# Altium footprint library HDR_fszhang.PcbLib: 116 footprints (part 1 of 8)
Each footprint in its own frame and in the unit in brackets; x right, y up, seen from the top. Pads: shape width x height; smd on the part's side, far side on the other; paste and mask are expansions set on the pad; w line width, h text height; cw(c..) or ccw(c..) is an arc to the next point about the centre after c.
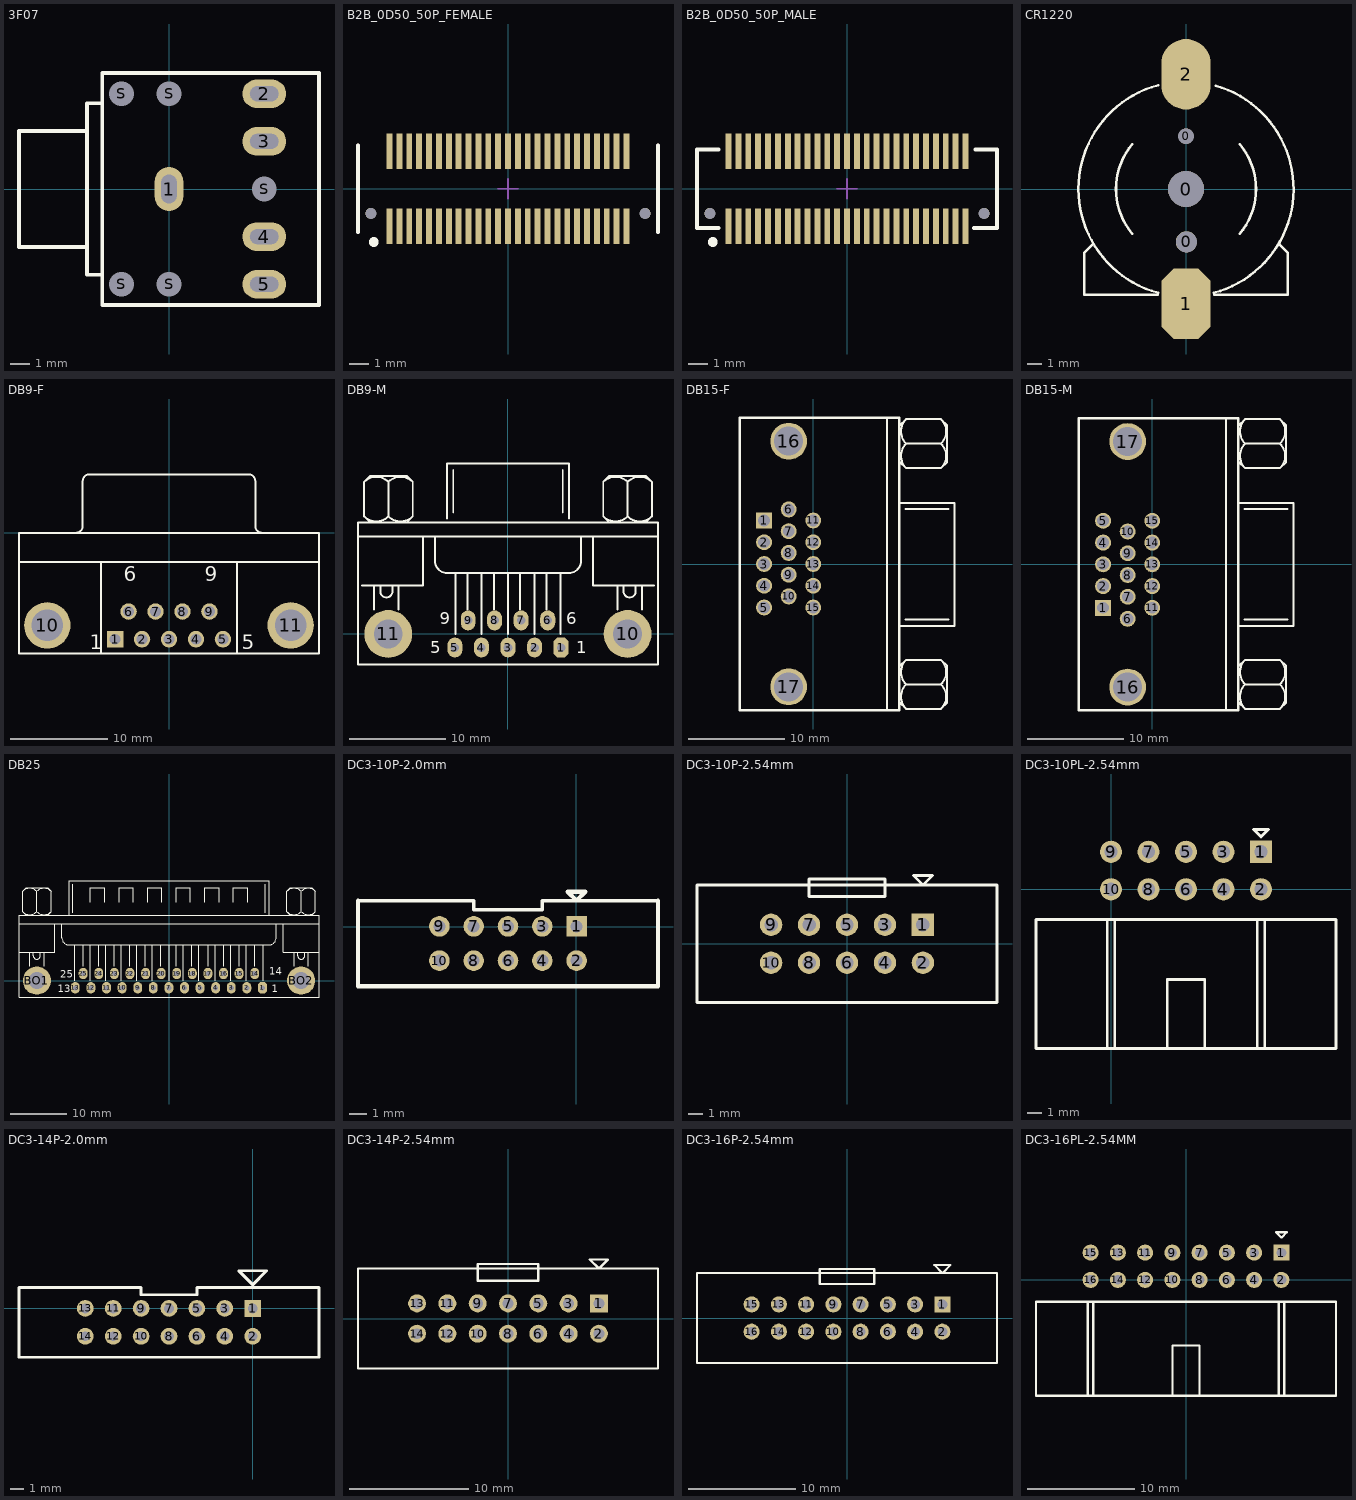
[diagram p0: the footprints below, top view; thin cyan lines are the x and y axes]

## 3F07 [mm] "立体声耳机插座"
pads (10):
  oval 1.5x2.3 hole 0.8 slot 1.5 at 90 deg: 1(0,0)
  oval 2.3x1.5 hole 0.8 slot 1.5 at 0 deg: 2(5,5) 3(5,2.5) 4(5,-2.5) 5(5,-5)
  round 1 hole 1.3: S(-2.5,-5) S(-2.5,5) S(0,-5) S(0,5) S(5,0)
Top Overlay:
  lines w0.2: -4.318,-3.048 -7.874,-3.048 -7.874,3.048 -4.318,3.048 ; -3.5,-4.5 -4.3,-4.5 -4.3,4.5 -3.5,4.5 ; -3.5,-6.096 7.874,-6.096 7.874,6.096 -3.5,6.096 -3.5,0 -3.5,-6.096
3D body: height 6, standoff 0, extent -7.874,-3.048 -4.318,3.048
3D body: height 6, standoff 0, extent -4.318,-4.445 -3.429,4.445
3D body: height 6, standoff 0, extent -3.429,-5.969 7.874,5.969

## B2B_0D50_50P_FEMALE [mil] "B2B_0D50_50P_FEMALE"
pads (52):
  rect 11.8x70.9 smd: 1(-236.2,-74.8) 2(-236.2,74.8) 3(-216.5,-74.8) 4(-216.5,74.8) 5(-196.9,-74.8) 6(-196.9,74.8) 7(-177.2,-74.8) 8(-177.2,74.8) 9(-157.5,-74.8) 10(-157.5,74.8) 11(-137.8,-74.8) 12(-137.8,74.8) 13(-118.1,-74.8) 14(-118.1,74.8) 15(-98.4,-74.8) 16(-98.4,74.8) 17(-78.7,-74.8) 18(-78.7,74.8) 19(-59.1,-74.8) 20(-59.1,74.8) 21(-39.4,-74.8) 22(-39.4,74.8) 23(-19.7,-74.8) 24(-19.7,74.8) 25(0,-74.8) 26(0,74.8) 27(19.7,-74.8) 28(19.7,74.8) 29(39.4,-74.8) 30(39.4,74.8) 31(59.1,-74.8) 32(59.1,74.8) 33(78.7,-74.8) 34(78.7,74.8) 35(98.4,-74.8) 36(98.4,74.8) 37(118.1,-74.8) 38(118.1,74.8) 39(137.8,-74.8) 40(137.8,74.8) 41(157.5,-74.8) 42(157.5,74.8) 43(177.2,-74.8) 44(177.2,74.8) 45(196.9,-74.8) 46(196.9,74.8) 47(216.5,-74.8) 48(216.5,74.8) 49(236.2,-74.8) 50(236.2,74.8)
  round 21.7 hole 21.7: " "(-273.6,-49.2) " "(273.6,-49.2)
Top Overlay:
  circle w9.8: c-267.7,-106.3 r4.9
  lines w7.9: -299.2,-86.6 -299.2,86.6 ; 299.2,-86.6 299.2,86.6
Mechanical 10:
  text "23" at -19.7,-94.8 h25
  text "12" at -137.8,54.8 h25
  text "19" at -59.1,-94.8 h25
  text "13" at -118.1,-94.8 h25
  text "18" at -78.7,54.8 h25
  text "5" at -196.9,-84.8 h25
  text "22" at -39.4,54.8 h25
  text "11" at -137.8,-94.8 h25
  text "32" at 59.1,54.8 h25
  text "35" at 98.4,-94.8 h25
  text "8" at -177.2,64.8 h25
  text "7" at -177.2,-84.8 h25
  text "30" at 39.4,54.8 h25
  text "10" at -157.5,54.8 h25
  text "2" at -236.2,64.8 h25
  text "14" at -118.1,54.8 h25
  text "3" at -216.5,-84.8 h25
  text "15" at -98.4,-94.8 h25
  text "33" at 78.7,-94.8 h25
  text "17" at -78.7,-94.8 h25
  text "9" at -157.5,-84.8 h25
  text "27" at 19.7,-94.8 h25
  text "16" at -98.4,54.8 h25
  text "4" at -216.5,64.8 h25
  text "43" at 177.2,-94.8 h25
  text "37" at 118.1,-94.8 h25
  text "31" at 59.1,-94.8 h25
  text "41" at 157.5,-94.8 h25
  text "34" at 78.7,54.8 h25
  text "36" at 98.4,54.8 h25
  text "38" at 118.1,54.8 h25
  text "40" at 137.8,54.8 h25
  text "42" at 157.5,54.8 h25
  text "44" at 177.2,54.8 h25
  text "46" at 196.9,54.8 h25
  text "24" at -19.7,54.8 h25
  text "26" at 0,54.8 h25
  text "21" at -39.4,-94.8 h25
  text "39" at 137.8,-94.8 h25
  text "25" at 0,-94.8 h25
  text "1" at -236.2,-84.8 h25
  text "28" at 19.7,54.8 h25
  text "6" at -196.9,64.8 h25
  text "29" at 39.4,-94.8 h25
  text "45" at 196.9,-94.8 h25
  text "20" at -59.1,54.8 h25
Mechanical 12:
  lines w7.9: -299.2,-86.6 -299.2,86.6 ; 299.2,-86.6 299.2,86.6
  text "RichardLC" at 0,-64.42 h15.7
Mechanical 15:
  lines w3.94: -19.69,0 19.68,0 ; 0,-19.68 0,19.69

## B2B_0D50_50P_MALE [mil] "B2B_0D50_50P_MALE"
pads (52):
  rect 11.8x70.9 smd: 1(-236.2,-74.8) 2(-236.2,74.8) 3(-216.5,-74.8) 4(-216.5,74.8) 5(-196.9,-74.8) 6(-196.9,74.8) 7(-177.2,-74.8) 8(-177.2,74.8) 9(-157.5,-74.8) 10(-157.5,74.8) 11(-137.8,-74.8) 12(-137.8,74.8) 13(-118.1,-74.8) 14(-118.1,74.8) 15(-98.4,-74.8) 16(-98.4,74.8) 17(-78.7,-74.8) 18(-78.7,74.8) 19(-59.1,-74.8) 20(-59.1,74.8) 21(-39.4,-74.8) 22(-39.4,74.8) 23(-19.7,-74.8) 24(-19.7,74.8) 25(0,-74.8) 26(0,74.8) 27(19.7,-74.8) 28(19.7,74.8) 29(39.4,-74.8) 30(39.4,74.8) 31(59.1,-74.8) 32(59.1,74.8) 33(78.7,-74.8) 34(78.7,74.8) 35(98.4,-74.8) 36(98.4,74.8) 37(118.1,-74.8) 38(118.1,74.8) 39(137.8,-74.8) 40(137.8,74.8) 41(157.5,-74.8) 42(157.5,74.8) 43(177.2,-74.8) 44(177.2,74.8) 45(196.9,-74.8) 46(196.9,74.8) 47(216.5,-74.8) 48(216.5,74.8) 49(236.2,-74.8) 50(236.2,74.8)
  round 21.7 hole 21.7: " "(-273.6,-49.2) " "(273.6,-49.2)
Top Overlay:
  circle w9.8: c-267.7,-106.3 r4.9
  lines w7.87: -256.3,-78.7 -299.2,-78.7 -299.2,78.7 -256.3,78.7 ; 253.7,-78.7 299.2,-78.7 ; 256.3,78.7 299.2,78.7
  lines w7.9: 299.2,-78.7 299.2,78.7
Mechanical 15:
  lines w3.94: -19.69,0 19.68,0 ; 0,-19.68 0,19.69

## CR1220 [mm] "钮扣电池"
height 3
pads (5):
  round 2.54 hole 2.54: 0(0,0)
  round 1.1 hole 1.1: 0(0,3.75)
  round 1.5 hole 1.5: 0(0.025,-3.75)
  oct 3.5x5 smd: 1(0,-8.128)
  oval 3.5x5 smd: 2(0,8.128)
Top Overlay:
  lines w0.178: -6.6,-3.9 -7.2,-4.5 -7.2,-7.5 -2,-7.5 ; -3.815,-3.169 cw(c0,0) -3.812,3.172 ; -1.963,-7.363 cw(c0,0) -7.62,0 cw(c0,0) -1.963,7.363 ; 1.963,-7.363 ccw(c0,0) 2.093,7.327 ; 2,-7.5 7.2,-7.5 7.2,-4.5 6.625,-3.925 ; 3.81,-3.175 ccw(c0,0) 3.812,3.172

## DB9-F [mm] "DB9母座"
height 12.75
pads (11):
  rect 1.69x1.69 hole 1.09: 1(-5.54,-10.92)
  round 1.69 hole 1.09: 2(-2.77,-10.92) 3(0,-10.92) 4(2.77,-10.92) 5(5.54,-10.92) 6(-4.155,-8.08) 7(-1.385,-8.08) 8(1.385,-8.08) 9(4.155,-8.08)
  round 4.76 hole 3.26: 10(-12.495,-9.5) 11(12.495,-9.5)
Top Overlay:
  lines w0.2: -15.4,-3 15.4,-3 ; -9.56,0.005 ccw(c-9.56,0.7) -8.865,0.7 -8.865,5.3 ; -8.86,5.305 cw(c-8.165,5.305) -8.165,6 8.165,6 cw(c8.165,5.305) 8.86,5.305 ; -7,-12.4 -7,-3 ; 7,-12.4 7,-3 ; 8.865,5.3 8.865,0.7 ccw(c9.56,0.7) 9.56,0.005 ; -15.4,-12.4 -15.4,0 15.4,0 15.4,-12.4 -15.4,-12.4
  text "1" at -8.128,-11.938 h1.5
  text "5" at 7.493,-11.938 h1.5
  text "9" at 3.655,-4.975 h1.5
  text "6" at -4.655,-4.975 h1.5

## DB9-M [mil] "DB9公座"
pads (11):
  oct 62x82 hole 35: 1(218.75,-55.83)
  oval 62x82 hole 35: 2(109.58,-55.83) 3(0.42,-55.83) 4(-108.75,-55.83) 5(-217.92,-55.83) 6(163.75,55.83) 7(54.58,55.83) 8(-54.58,55.83)
  oval 60x82 hole 35: 9(-163.75,55.83)
  round 196.67 hole 118.33: 10(492.08,0) 11(-492.08,0)
Top Overlay:
  lines w8: -616.25,400 617.08,400 ; -599.58,200 -349.58,200 -349.58,400 ; -591.34,483.25 ccw(c-541.25,533.33) -491.16,483.25 ; -591.34,625.09 cw(c-541.25,575) -491.16,625.09 ; -566.25,458.33 -591.25,483.33 -591.25,625 -566.25,650 -416.25,650 -391.25,625 -391.25,483.33 -416.25,458.33 ; -549.58,100 -549.58,200 ; -524.58,200 -524.58,175 ccw(c-499.58,175) -474.58,175 -474.58,200 ; -491.34,483.25 ccw(c-441.25,533.33) -391.16,483.25 ; -491.34,625.09 cw(c-441.25,575) -391.16,625.09 ; -491.25,483.33 -491.25,625 ; -449.58,100 -449.58,200 ; -299.58,400 -299.58,300 ccw(c-249.58,300) -249.58,250 250.42,250 ccw(c250.42,300) 300.42,300 300.42,400 ; -249.58,475 -249.58,700 250.42,700 250.42,475 ; -224.58,500 -224.58,675 ; -216.25,0 -216.25,250 ; -166.25,100 -166.25,250 ; -107.92,0 -107.92,250 ; -57.92,100 -57.92,250 ; 0.42,0 0.42,250 ; 50.42,100 50.42,250 ; 108.75,0 108.75,250 ; 158.75,100 158.75,250 ; 217.08,0 217.08,250 ; 225.42,500 225.42,675 ; 350.42,400 350.42,200 600.42,200 ; 392,483.25 ccw(c442.08,533.33) 492.17,483.25 ; 392,625.09 cw(c442.08,575) 492.17,625.09 ; 417.08,458.33 392.08,483.33 392.08,625 417.08,650 567.08,650 592.08,625 592.08,483.33 567.08,458.33 ; 450.42,100 450.42,200 ; 475.42,200 475.42,175 ccw(c500.42,175) 525.42,175 525.42,200 ; 492,483.25 ccw(c542.08,533.33) 592.17,483.25 ; 492,625.09 cw(c542.08,575) 592.17,625.09 ; 492.08,483.33 492.08,625 ; 550.42,100 550.42,200 ; -616.25,-125 617.08,-125 617.08,458.33 -616.25,458.33 -616.25,-125
  text "6" at 240.42,40 h50
  text "1" at 280.42,-80 h50
  text "5" at -319.58,-80 h50
  text "9" at -279.58,40 h50
3D body: height 504.38, standoff -114.62, extent -600.76,-119.22 612.24,631.78

## DB15-F [mil] "VGA母座"
height 393.7
pads (17):
  rect 65x65 hole 48: 1(-200,177.16)
  round 65 hole 48: 2(-200,88.58) 3(-200,0) 4(-200,-88.58) 5(-200,-177.16) 6(-100,222.17) 7(-100,133.58) 8(-100,45) 9(-100,-43.58) 10(-100,-132.16) 11(0,177.16) 12(0,88.58) 13(0,0) 14(0,-88.58) 15(0,-177.16)
  round 150 hole 118.11: 16(-100,500) 17(-100,-500)
Top Overlay:
  lines w8: 300,-595 300,596.25 ; 350,-251.67 575,-251.67 575,248.33 350,248.33 ; 353.33,-565 378.33,-590 520,-590 545,-565 545,-415 520,-390 378.33,-390 353.33,-415 ; 353.33,415 378.33,390 520,390 545,415 545,565 520,590 378.33,590 353.33,565 ; 375,-226.67 550,-226.67 ; 375,223.33 550,223.33 ; 378.25,-590.09 cw(c428.33,-540) 378.25,-489.91 ; 378.25,-490.09 cw(c428.33,-440) 378.25,-389.91 ; 378.25,389.91 cw(c428.33,440) 378.25,490.09 ; 378.25,489.91 cw(c428.33,540) 378.25,590.09 ; 378.33,-490 520,-490 ; 378.33,490 520,490 ; 520.09,-590.09 ccw(c470,-540) 520.09,-489.91 ; 520.09,-490.09 ccw(c470,-440) 520.09,-389.91 ; 520.09,389.91 ccw(c470,440) 520.09,490.09 ; 520.09,489.91 ccw(c470,540) 520.09,590.09
  lines w10: -300,-595 350,-595 350,595 -300,595 -300,-595

## DB15-M [mil] "VGA公座"
height 393.7
pads (17):
  rect 65x65 hole 48: 1(-200,-177.16)
  round 65 hole 48: 2(-200,-88.58) 3(-200,0) 4(-200,88.58) 5(-200,177.16) 6(-100,-222) 7(-100,-132.16) 8(-100,-43.58) 9(-100,45) 10(-100,133.58) 11(0,-177.16) 12(0,-88.58) 13(0,0) 14(0,88.58) 15(0,177.16)
  round 150 hole 118.11: 16(-100,-500) 17(-100,500)
Top Overlay:
  lines w8: 300,-596.25 300,595 ; 350,-250.42 575,-250.42 575,249.58 350,249.58 ; 353.33,-563.75 378.33,-588.75 520,-588.75 545,-563.75 545,-413.75 520,-388.75 378.33,-388.75 353.33,-413.75 ; 353.33,416.25 378.33,391.25 520,391.25 545,416.25 545,566.25 520,591.25 378.33,591.25 353.33,566.25 ; 375,-225.42 550,-225.42 ; 375,224.58 550,224.58 ; 378.25,-588.84 cw(c428.33,-538.75) 378.25,-488.66 ; 378.25,-488.84 cw(c428.33,-438.75) 378.25,-388.66 ; 378.25,391.16 cw(c428.33,441.25) 378.25,491.34 ; 378.25,491.16 cw(c428.33,541.25) 378.25,591.34 ; 378.33,-488.75 520,-488.75 ; 378.33,491.25 520,491.25 ; 520.09,-588.84 ccw(c470,-538.75) 520.09,-488.66 ; 520.09,-488.84 ccw(c470,-438.75) 520.09,-388.66 ; 520.09,391.16 ccw(c470,441.25) 520.09,491.34 ; 520.09,491.16 ccw(c470,541.25) 520.09,591.34
  lines w10: -300,-595 -300,595 350,595 350,-595 -300,-595

## DB25 [mil] "DB25公座"
pads (27):
  oct 62x80 hole 35: 1(654.17,-50)
  oval 62x80 hole 35: 2(545,-50) 3(435.83,-50) 4(326.67,-50) 5(217.5,-50) 6(108.33,-50) 7(-0.83,-50) 8(-110,-50) 9(-219.17,-50) 10(-328.33,-50) 11(-437.5,-50) 12(-546.67,-50) 13(-655.83,-50) 14(600,50) 15(490.83,50) 16(381.67,50) 17(272.5,50) 18(163.33,50) 19(54.17,50) 20(-55,50) 21(-164.17,50) 22(-273.33,50) 23(-382.5,50) 24(-491.67,50) 25(-600.83,50)
  round 196.67 hole 118.33: BO1(-925,0) BO2(925,0)
Top Overlay:
  lines w8: -1050,200 -800,200 -800,400 ; -1050,400 1050,400 ; -1025.09,483.25 ccw(c-975,533.33) -924.91,483.25 ; -1025.09,625.09 cw(c-975,575) -924.91,625.09 ; -1000,458.33 -1025,483.33 -1025,625 -1000,650 -850,650 -825,625 -825,483.33 -850,458.33 ; -975,100 -975,200 ; -950,200 -950,175 ccw(c-925,175) -900,175 -900,200 ; -925.09,483.25 ccw(c-875,533.33) -824.91,483.25 ; -925.09,625.09 cw(c-875,575) -824.91,625.09 ; -925,483.33 -925,625 ; -875,100 -875,200 ; -750,400 -750,300 ccw(c-700,300) -700,250 700,250 ccw(c700,300) 750,300 750,400 ; -700,458.33 -700,700 700,700 700,458.33 ; -675,475 -675,675 ; -658.33,0 -658.33,250 ; -600,100 -600,250 ; -550,0 -550,250 ; -550,550 -550,650 -450,650 -450,550 ; -491.67,100 -491.67,250 ; -441.67,0 -441.67,250 ; -383.33,100 -383.33,250 ; -350,550 -350,650 -250,650 -250,550 ; -333.33,0 -333.33,250 ; -275,100 -275,250 ; -225,0 -225,250 ; -166.67,100 -166.67,250 ; -150,550 -150,650 -50,650 -50,550 ; -116.67,0 -116.67,250 ; -58.33,100 -58.33,250 ; 0,0 0,250 ; 50,100 50,250 ; 50,550 50,650 150,650 150,550 ; 100,0 100,250 ; 158.33,100 158.33,250 ; 208.33,0 208.33,250 ; 250,550 250,650 350,650 350,550 ; 275,100 275,250 ; 325,0 325,250 ; 383.33,100 383.33,250 ; 433.33,0 433.33,250 ; 450,550 450,650 550,650 550,550 ; 491.67,100 491.67,250 ; 541.67,0 541.67,250 ; 600,100 600,250 ; 658.33,0 658.33,250 ; 675,475 675,675 ; 800,400 800,200 1050,200 ; 824.91,483.25 ccw(c875,533.33) 925.09,483.25 ; 824.91,625.09 cw(c875,575) 925.09,625.09 ; 850,458.33 825,483.33 825,625 850,650 1000,650 1025,625 1025,483.33 1000,458.33 ; 875,100 875,200 ; 900,200 900,175 ccw(c925,175) 950,175 950,200 ; 924.91,483.25 ccw(c975,533.33) 1025.09,483.25 ; 924.91,625.09 cw(c975,575) 1025.09,625.09 ; 925,483.33 925,625 ; 975,100 975,200 ; -1050,-116.67 1050,-116.67 1050,458.33 -1050,458.33 -1050,-116.67
  text "25" at -760,20 h50
  text "13" at -780,-80 h50
  text "1" at 720,-80 h50
  text "14" at 700,40 h50
3D body: height 494.09, standoff -125.2, extent -1044.59,-110.09 1043.6,610.38

## DC3-10P-2.0mm [mm] "简易牛角座直"
pads (10):
  rect 1.2x1.2 hole 0.7: 1(0.006,0.012)
  round 1.2 hole 0.7: 2(0.006,-1.988) 3(-1.994,0.012) 4(-1.994,-1.988) 5(-3.994,0.012) 6(-3.994,-1.988) 7(-5.994,0.012) 8(-5.994,-1.988) 9(-7.994,0.012) 10(-7.994,-1.988)
Top Overlay:
  lines w0.2: -12.744,1.512 -5.994,1.512 -5.994,0.987 -1.994,0.987 -1.994,1.512 4.756,1.512
  lines w0.254: -12.744,1.512 -12.744,-3.488 4.756,-3.488 4.756,1.512 ; -0.508,2.032 0.508,2.032 0,1.524 -0.508,2.032

## DC3-10P-2.54mm [mm] "简易牛角座直"
height 1.2
pads (10):
  rect 1.5x1.5 hole 0.9: 1(5.08,1.27)
  round 1.5 hole 0.9: 2(5.08,-1.27) 3(2.54,1.27) 4(2.54,-1.27) 5(0,1.27) 6(0,-1.27) 7(-2.54,1.27) 8(-2.54,-1.27) 9(-5.08,1.27) 10(-5.08,-1.27)
Top Overlay:
  lines w0.2: -10.033,-3.937 10.033,-3.937 10.033,3.937 -10.033,3.937 -10.033,-3.937 ; -2.54,3.175 -2.54,3.937 -2.54,4.318 2.54,4.318 2.54,3.937 2.54,3.175 -2.54,3.175 ; 4.445,4.572 5.588,4.572 5.715,4.572 5.08,3.937 4.445,4.572

## DC3-10PL-2.54mm [mm] "简易牛角座弯"
height 1.75
pads (10):
  rect 1.5x1.5 hole 0.9: 1(10.16,2.54)
  round 1.5 hole 0.9: 2(10.16,0) 3(7.62,2.54) 4(7.62,0) 5(5.08,2.54) 6(5.08,0) 7(2.54,2.54) 8(2.54,0) 9(0,2.54) 10(0,0)
Top Overlay:
  lines w0.2: -0.254,-10.795 -0.254,-2.032 ; 0.254,-10.795 0.254,-2.032 ; 3.81,-10.795 3.81,-6.096 6.35,-6.096 6.35,-10.795 ; 9.906,-10.795 9.906,-2.032 ; 10.414,-10.795 10.414,-2.032 ; -5.08,-10.795 -5.08,-2.032 15.24,-2.032 15.24,-10.795 -5.08,-10.795 ; 9.652,4.064 10.541,4.064 10.668,4.064 10.16,3.556 9.652,4.064

## DC3-14P-2.0mm [mm] "简易牛角座直"
pads (14):
  rect 1.2x1.2 hole 0.7: 1(0,0)
  round 1.2 hole 0.7: 2(0,-2) 3(-2,0) 4(-2,-2) 5(-4,0) 6(-4,-2) 7(-6,0) 8(-6,-2) 9(-8,0) 10(-8,-2) 11(-10,0) 12(-10,-2) 13(-12,0) 14(-12,-2)
Top Overlay:
  lines w0.2: -16.75,-3.5 -16.75,1.5 -8,1.5 -8,0.975 -4,0.975 -4,1.5 4.75,1.5 4.75,-3.5 -16.75,-3.5 ; -1,2.7 0,1.7 1,2.7 -1,2.7

## DC3-14P-2.54mm [mm] "简易牛角座直"
height 2.65
pads (14):
  rect 1.5x1.5 hole 0.9: 1(7.62,1.27)
  round 1.5 hole 0.9: 2(7.62,-1.27) 3(5.08,1.27) 4(5.08,-1.27) 5(2.54,1.27) 6(2.54,-1.27) 7(0,1.27) 8(0,-1.27) 9(-2.54,1.27) 10(-2.54,-1.27) 11(-5.08,1.27) 12(-5.08,-1.27) 13(-7.62,1.27) 14(-7.62,-1.27)
Top Overlay:
  lines w0.2: -12.573,-4.191 12.573,-4.191 12.573,4.191 -12.573,4.191 -12.573,-4.191 ; -2.54,3.175 -2.54,4.191 -2.54,4.572 2.54,4.572 2.54,4.191 2.54,3.175 -2.54,3.175 ; 6.858,4.953 7.62,4.191 8.382,4.953 8.255,4.953 6.858,4.953

## DC3-16P-2.54mm [mm] "简易牛角座直"
height 7
pads (16):
  rect 1.5x1.5 hole 0.9: 1(8.89,1.27)
  round 1.5 hole 0.9: 2(8.89,-1.27) 3(6.35,1.27) 4(6.35,-1.27) 5(3.81,1.27) 6(3.81,-1.27) 7(1.27,1.27) 8(1.27,-1.27) 9(-1.27,1.27) 10(-1.27,-1.27) 11(-3.81,1.27) 12(-3.81,-1.27) 13(-6.35,1.27) 14(-6.35,-1.27) 15(-8.89,1.27) 16(-8.89,-1.27)
Top Overlay:
  lines w0.2: -13.97,-4.191 -13.97,4.191 13.97,4.191 13.97,-4.191 -13.97,-4.191 ; -2.54,3.175 2.54,3.175 2.54,4.191 2.54,4.572 -2.54,4.572 -2.54,4.191 -2.54,3.175 ; 8.128,4.953 8.89,4.191 9.652,4.953 8.128,4.953

## DC3-16PL-2.54MM [mm] "2.54双排针排座"
pads (16):
  rect 1.5x1.5 hole 0.9: 1(8.89,2.54)
  round 1.5 hole 0.9: 2(8.89,0) 3(6.35,2.54) 4(6.35,0) 5(3.81,2.54) 6(3.81,0) 7(1.27,2.54) 8(1.27,0) 9(-1.27,2.54) 10(-1.27,0) 11(-3.81,2.54) 12(-3.81,0) 13(-6.35,2.54) 14(-6.35,0) 15(-8.89,2.54) 16(-8.89,0)
Top Overlay:
  lines w0.2: -9.144,-10.795 -9.144,-2.032 ; -8.636,-10.795 -8.636,-2.032 ; -1.27,-10.795 -1.27,-6.096 1.27,-6.096 1.27,-10.795 ; 8.636,-10.795 8.636,-2.032 ; 9.144,-10.795 9.144,-2.032 ; -13.97,-10.795 -13.97,-2.032 13.97,-2.032 13.97,-10.795 -13.97,-10.795 ; 8.382,4.445 8.89,3.937 9.398,4.445 9.271,4.445 8.382,4.445